# Altium schematic symbol library trafficlight.SchLib: 10 symbols
Pins are listed as number, name and electrical type; pins without a type are passive.

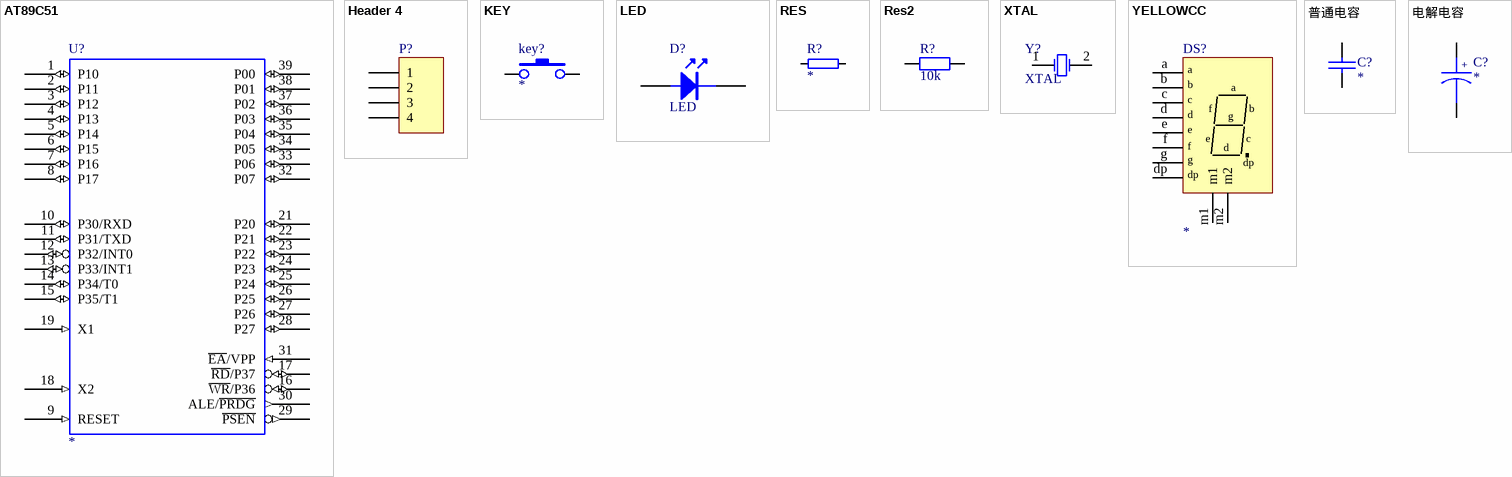
[diagram p0: symbols AT89C51 to 电解电容]

## AT89C51
designator U?
footprint DIP40C
footprint DIP40
pins: 1 P10 (io), 2 P11 (io), 3 P12 (io), 4 P13 (io), 5 P14 (io), 6 P15 (io), 7 P16 (io), 8 P17 (io), 9 RESET (in), 10 P30/RXD (io), 11 P31/TXD (io), 12 P32/INT0 (io), 13 P33/INT1 (io), 14 P34/T0 (io), 15 P35/T1 (io), 16 ~{WR}/P36 (io), 17 ~{RD}/P37 (io), 18 X2 (in), 19 X1 (in), 20 GND (power) hidden to GND, 21 P20 (io), 22 P21 (io), 23 P22 (io), 24 P23 (io), 25 P24 (io), 26 P25 (io), 27 P26 (io), 28 P27 (io), 29 ~{PSEN} (out), 30 ALE/~{PRDG} (out), 31 ~{EA}/VPP (in), 32 P07 (io), 33 P06 (io), 34 P05 (io), 35 P04 (io), 36 P03 (io), 37 P02 (io), 38 P01 (io), 39 P00 (io), 40 VCC (power) hidden to VCC

## Header 4
designator P?  (value not drawn)
Header, 4-Pin; LatestRevisionDate: 17-Jul-2002; LatestRevisionNote: Re-released for DXP Platform.; Publisher: Altium Limited
footprint SIP4
footprint SIP04
pins: 1, 2, 3, 4

## KEY
designator key?
footprint SWITCH
footprint 6X6X?
pins: 1, 2

## LED
designator D?
footprint LED
pins: 1, 2

## RES
designator R?
footprint AXIAL0.4
pins: 1, 2

## Res2
designator R?, comment 10k
Resistor; Published: 8-Jun-2000; LatestRevisionDate: 17-Jul-2002; LatestRevisionNote: Re-released for DXP Platform.; PackageReference: AXIAL-0.4; Publisher: Altium Limited; Value: 10K
footprint R9
pins: 1, 2

## XTAL
designator Y?
XTAL: 12MHZ
footprint 晶振
pins: 1, 2

## YELLOWCC
designator DS?
Common Cathhode Seven-Segment Display, Right Hand Decimal
footprint 0.5INCH-DISP
pins: a, b, c, d, dp, e, f, g, m1, m2

## 普通电容
designator C?
Capacitor
footprint D104
pins: 1, 2

## 电解电容
designator C?
Capacitor
footprint D50V10UF
pins: 1, 2
text: +